# Altium footprint library TH-P2.0.PcbLib: 1 footprints
Each footprint in its own frame and in the unit in brackets; x right, y up, seen from the top. Pads: shape width x height; smd on the part's side, far side on the other; paste and mask are expansions set on the pad; w line width, h text height; cw(c..) or ccw(c..) is an arc to the next point about the centre after c.
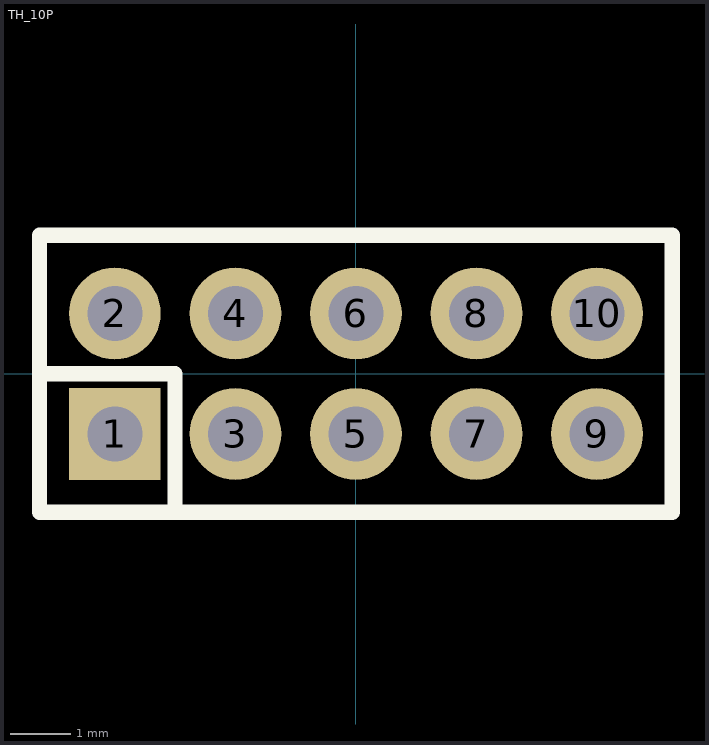
[diagram p0: the footprint, top view; thin cyan lines are the x and y axes]

## TH_10P [mil]
pads (10):
  rect 60x60 hole 36: 1(-157.49,-39.37)
  round 60 hole 36: 2(-157.49,39.37) 3(-78.73,-39.37) 4(-78.73,39.37) 5(0.01,-39.37) 6(0.01,39.37) 7(78.75,-39.37) 8(78.75,39.37) 9(157.49,-39.37) 10(157.49,39.37)
Top Overlay:
  lines w10: -204.76,0.03 -118.15,0.03 -118.15,-90.53 ; -206.72,-90.53 206.65,-90.53 206.65,90.58 -206.72,90.58 -206.72,-90.53
Mechanical 15:
  region: -204.37,-88.56 -204.37,-87.58 -205.75,-86.2 -207.71,-86.2 -209.09,-87.58 -209.09,-88.56 -209.09,-89.54 -207.71,-90.92 -205.75,-90.92 -204.37,-89.54 -204.37,-88.56
  region: 147.57,35.49 147.57,43.36 167.25,43.36 167.25,35.49
  region: 147.57,-43.31 147.57,-35.44 167.25,-35.44 167.25,-43.31
  region: 68.87,35.39 68.87,43.26 88.55,43.26 88.55,35.39
  region: 68.87,-43.31 68.87,-35.44 88.55,-35.44 88.55,-43.31
  region: -9.83,35.39 -9.83,43.26 9.85,43.26 9.85,35.39
  region: -9.83,-43.31 -9.83,-35.44 9.85,-35.44 9.85,-43.31
  region: -88.63,35.39 -88.63,43.26 -68.95,43.26 -68.95,35.39
  region: -88.63,-43.31 -88.63,-35.44 -68.95,-35.44 -68.95,-43.31
  region: -167.33,35.39 -167.33,43.26 -147.65,43.26 -147.65,35.39
  region: -167.33,-35.44 -147.65,-35.44 -147.65,-43.31 -167.33,-43.31
  lines w2: -206.73,-88.56 -206.73,88.61 206.65,88.61 206.65,-88.56 -206.73,-88.56